# EAGLE library part 74LVC (library cpio)
Level Shifter (1.2 to 5.5V), Dual supply translating transceiver, 3-state
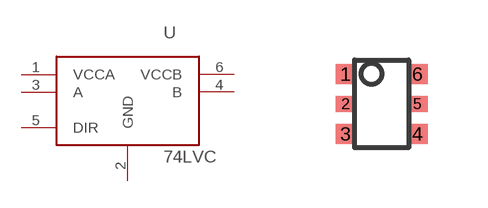
[diagram p4: symbol with the pads of SOT-363; footprint SOT-363]

Designator prefix -

## 74LVC  [SOT-363]
1  VCCA  pwr
2  GND  pwr
3  A
4  B
5  DIR  in
6  VCCB  pwr

## Footprint SOT-363 (pad centres in mm)
smd 0.5 x 0.5: 1 -0.9,0.75; 3 -0.9,-0.75; 4 0.9,-0.75; 6 0.9,0.75
smd 0.5 x 0.4: 2 -0.9,0; 5 0.9,0